# EAGLE library part ESP8266 (library seniorDesign)
ESP8266 Wifi Module Breakout
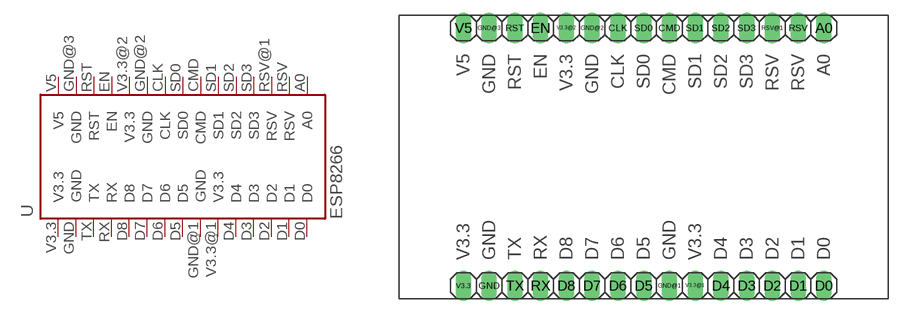
[diagram p15: symbol with the pads of ESP8266; footprint ESP8266]

Designator prefix -

## ESP8266  [ESP8266]
A0  A0
CLK  CLK
CMD  CMD
D0  D0
D1  D1
D2  D2
D3  D3
D4  D4
D5  D5
D6  D6
D7  D7
D8  D8
EN  EN
GND  GND
GND@1  GND
GND@2  GND
GND@3  GND
RST  RST
RSV  RSV
RSV@1  RSV
RX  RX
SD0  SD0
SD1  SD1
SD2  SD2
SD3  SD3
TX  TX
V3.3  V3.3
V3.3@1  V3.3
V3.3@2  V3.3
V5  V5

## Footprint ESP8266 (pad centres in mm)
drill 1.016 long: A0 19.05,0; CLK -1.27,0; CMD 3.81,0; D0 19.05,-25.4; D1 16.51,-25.4; D2 13.97,-25.4; D3 11.43,-25.4; D4 8.89,-25.4; D5 1.27,-25.4; D6 -1.27,-25.4; D7 -3.81,-25.4; D8 -6.35,-25.4; EN -8.89,0; GND -13.97,-25.4; GND@1 3.81,-25.4; GND@2 -3.81,0; GND@3 -13.97,0; RST -11.43,0; RSV 16.51,0; RSV@1 13.97,0; RX -8.89,-25.4; SD0 1.27,0; SD1 6.35,0; SD2 8.89,0; SD3 11.43,0; TX -11.43,-25.4; V3.3 -16.51,-25.4; V3.3@1 6.35,-25.4; V3.3@2 -6.35,0; V5 -16.51,0